# Altium schematic symbol library RJE071880110.SchLib: 1 symbol
Pins are listed as number, name and electrical type; pins without a type are passive.

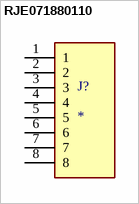
[diagram p0: symbol RJE071880110]

## RJE071880110
designator J?
MF: Amphenol ICC (Commercial Products); MP: RJE071880110; Package: None; Price: None; Value: *; Availability: Unavailable
footprint AMPHENOL_RJE071880110
pins: 1, 2, 3, 4, 5, 6, 7, 8